# Altium schematic symbol library RGB_LED.SchLib: 1 symbol
Pins are listed as number, name and electrical type; pins without a type are passive.

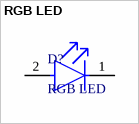
[diagram p0: symbol RGB LED]

## RGB LED
designator D?
footprint INDRD500W70D900H1220
pins: 1 C, 2 A